# Altium footprint library 2-1445054-2.PcbLib: 1 footprints
Each footprint in its own frame and in the unit in brackets; x right, y up, seen from the top. Pads: shape width x height; smd on the part's side, far side on the other; paste and mask are expansions set on the pad; w line width, h text height; cw(c..) or ccw(c..) is an arc to the next point about the centre after c.
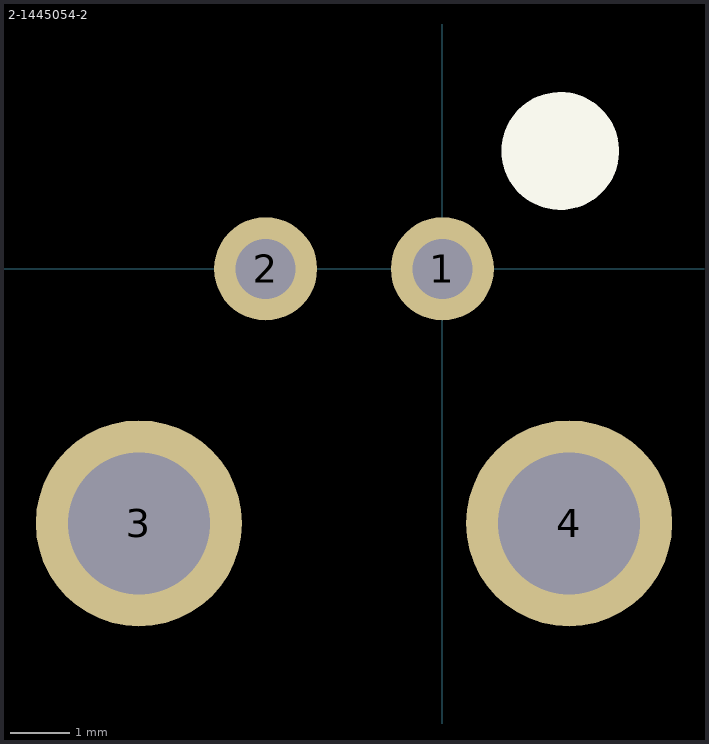
[diagram p0: the footprint, top view; thin cyan lines are the x and y axes]

## 2-1445054-2 [mm] "2p through hole connector"
pads (4):
  round 1.75 hole 1.02: 1(0,0) 2(-3,0)
  round 3.5 hole 2.41: 3(-5.15,-4.32) 4(2.15,-4.32)
Top Overlay:
  circle w1: c2,2 r0.5